# Altium schematic symbol library CM4_GPIO.SchLib: 14 symbols
Pins are listed as number, name and electrical type; pins without a type are passive.

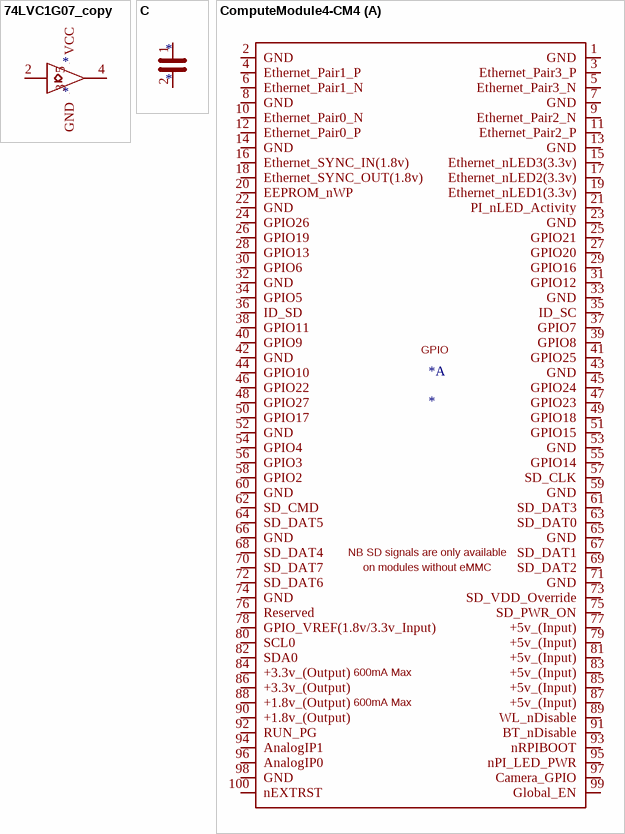
[diagram p0: symbols 74LVC1G07_copy to ComputeModule4-CM4]

## 74LVC1G07_copy
designator *
pins: 2, 3 GND, 4, 5 VCC

## C
designator *
pins: 1, 2

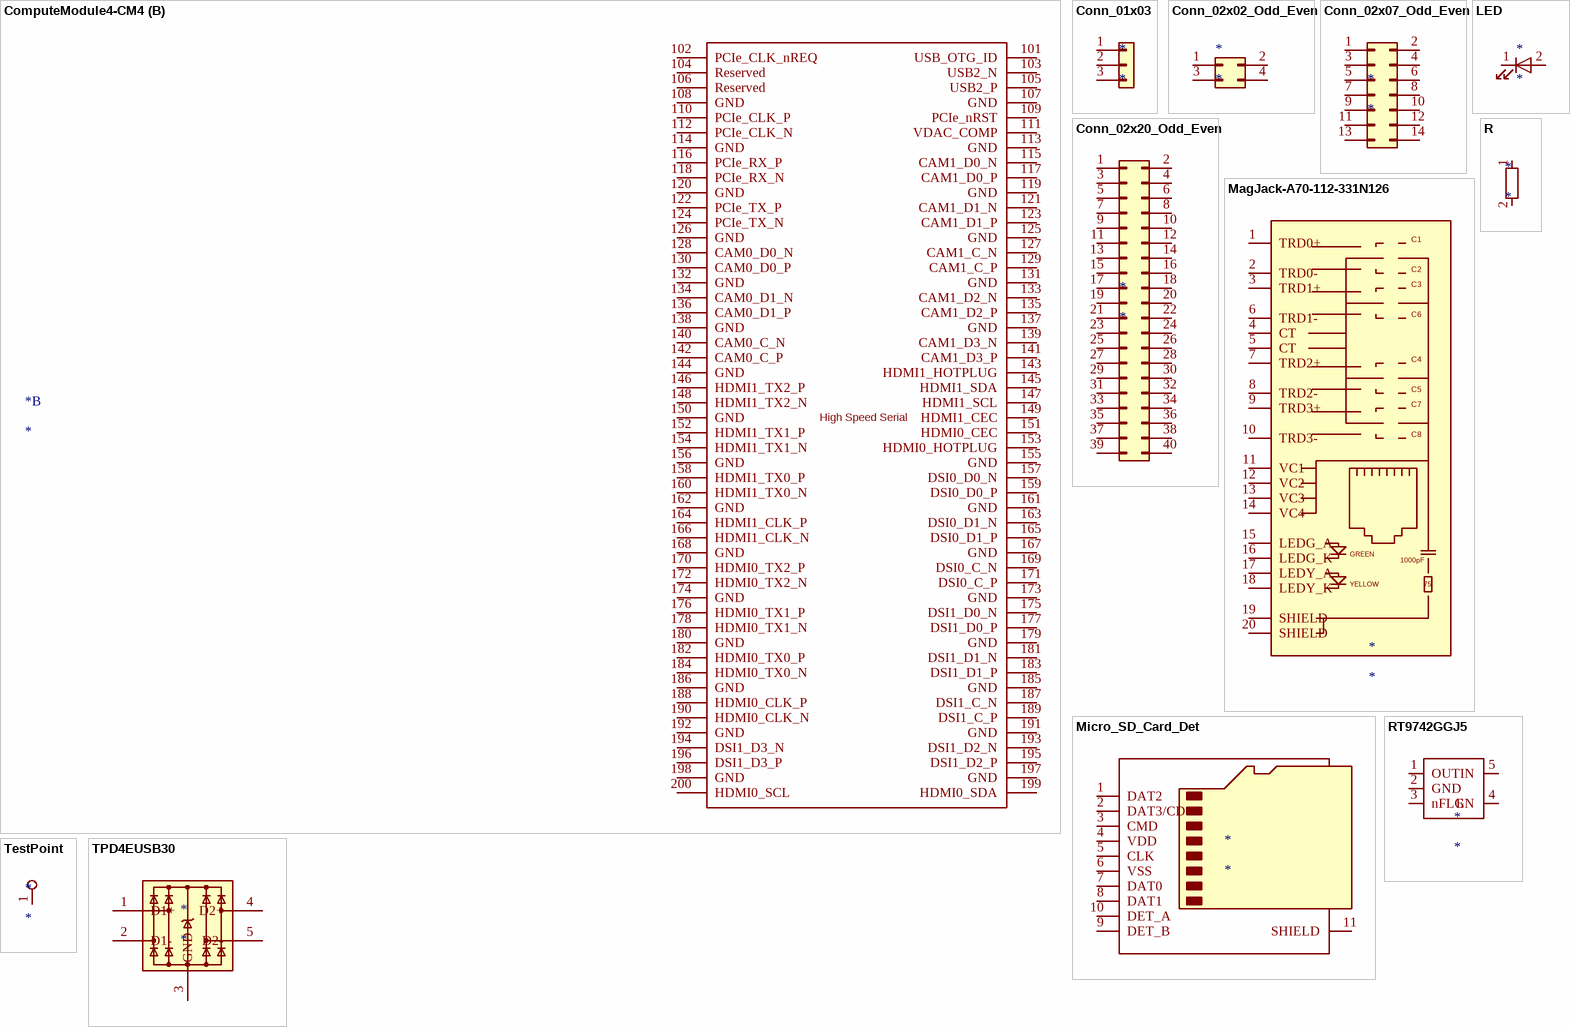
[diagram p1: symbols ComputeModule4-CM4 to TPD4EUSB30]

## ComputeModule4-CM4
designator *
part A pins: 1 GND, 2 GND, 3 Ethernet_Pair3_P, 4 Ethernet_Pair1_P, 5 Ethernet_Pair3_N, 6 Ethernet_Pair1_N, 7 GND, 8 GND, 9 Ethernet_Pair2_N, 10 Ethernet_Pair0_N, 11 Ethernet_Pair2_P, 12 Ethernet_Pair0_P, 13 GND, 14 GND, 15 Ethernet_nLED3(3.3v), 16 Ethernet_SYNC_IN(1.8v), 17 Ethernet_nLED2(3.3v), 18 Ethernet_SYNC_OUT(1.8v), 19 Ethernet_nLED1(3.3v), 20 EEPROM_nWP, 21 PI_nLED_Activity, 22 GND, 23 GND, 24 GPIO26, 25 GPIO21, 26 GPIO19, 27 GPIO20, 28 GPIO13, 29 GPIO16, 30 GPIO6, 31 GPIO12, 32 GND, 33 GND, 34 GPIO5, 35 ID_SC, 36 ID_SD, 37 GPIO7, 38 GPIO11, 39 GPIO8, 40 GPIO9, 41 GPIO25, 42 GND, 43 GND, 44 GPIO10, 45 GPIO24, 46 GPIO22, 47 GPIO23, 48 GPIO27, 49 GPIO18, 50 GPIO17, 51 GPIO15, 52 GND, 53 GND, 54 GPIO4, 55 GPIO14, 56 GPIO3, 57 SD_CLK, 58 GPIO2, 59 GND, 60 GND, 61 SD_DAT3, 62 SD_CMD, 63 SD_DAT0, 64 SD_DAT5, 65 GND, 66 GND, 67 SD_DAT1, 68 SD_DAT4, 69 SD_DAT2, 70 SD_DAT7, 71 GND, 72 SD_DAT6, 73 SD_VDD_Override, 74 GND, 75 SD_PWR_ON, 76 Reserved, 77 +5v_(Input), 78 GPIO_VREF(1.8v/3.3v_Input), 79 +5v_(Input), 80 SCL0, 81 +5v_(Input), 82 SDA0, 83 +5v_(Input), 84 +3.3v_(Output), 85 +5v_(Input), 86 +3.3v_(Output), 87 +5v_(Input), 88 +1.8v_(Output), 89 WL_nDisable, 90 +1.8v_(Output), 91 BT_nDisable, 92 RUN_PG, 93 nRPIBOOT, 94 AnalogIP1, 95 nPI_LED_PWR, 96 AnalogIP0, 97 Camera_GPIO, 98 GND, 99 Global_EN, 100 nEXTRST
part B pins: 101 USB_OTG_ID, 102 PCIe_CLK_nREQ, 103 USB2_N, 104 Reserved, 105 USB2_P, 106 Reserved, 107 GND, 108 GND, 109 PCIe_nRST, 110 PCIe_CLK_P, 111 VDAC_COMP, 112 PCIe_CLK_N, 113 GND, 114 GND, 115 CAM1_D0_N, 116 PCIe_RX_P, 117 CAM1_D0_P, 118 PCIe_RX_N, 119 GND, 120 GND, 121 CAM1_D1_N, 122 PCIe_TX_P, 123 CAM1_D1_P, 124 PCIe_TX_N, 125 GND, 126 GND, 127 CAM1_C_N, 128 CAM0_D0_N, 129 CAM1_C_P, 130 CAM0_D0_P, 131 GND, 132 GND, 133 CAM1_D2_N, 134 CAM0_D1_N, 135 CAM1_D2_P, 136 CAM0_D1_P, 137 GND, 138 GND, 139 CAM1_D3_N, 140 CAM0_C_N, 141 CAM1_D3_P, 142 CAM0_C_P, 143 HDMI1_HOTPLUG, 144 GND, 145 HDMI1_SDA, 146 HDMI1_TX2_P, 147 HDMI1_SCL, 148 HDMI1_TX2_N, 149 HDMI1_CEC, 150 GND, 151 HDMI0_CEC, 152 HDMI1_TX1_P, 153 HDMI0_HOTPLUG, 154 HDMI1_TX1_N, 155 GND, 156 GND, 157 DSI0_D0_N, 158 HDMI1_TX0_P, 159 DSI0_D0_P, 160 HDMI1_TX0_N, 161 GND, 162 GND, 163 DSI0_D1_N, 164 HDMI1_CLK_P, 165 DSI0_D1_P, 166 HDMI1_CLK_N, 167 GND, 168 GND, 169 DSI0_C_N, 170 HDMI0_TX2_P, 171 DSI0_C_P, 172 HDMI0_TX2_N, 173 GND, 174 GND, 175 DSI1_D0_N, 176 HDMI0_TX1_P, 177 DSI1_D0_P, 178 HDMI0_TX1_N, 179 GND, 180 GND, 181 DSI1_D1_N, 182 HDMI0_TX0_P, 183 DSI1_D1_P, 184 HDMI0_TX0_N, 185 GND, 186 GND, 187 DSI1_C_N, 188 HDMI0_CLK_P, 189 DSI1_C_P, 190 HDMI0_CLK_N, 191 GND, 192 GND, 193 DSI1_D2_N, 194 DSI1_D3_N, 195 DSI1_D2_P, 196 DSI1_D3_P, 197 GND, 198 GND, 199 HDMI0_SDA, 200 HDMI0_SCL
part A text: GPIO; NB SD signals are only available; on modules without eMMC; 600mA Max
part B text: High Speed Serial

## Conn_01x03
designator *
pins: 1 Pin_1, 2 Pin_2, 3 Pin_3

## Conn_02x02_Odd_Even
designator *
pins: 1 Pin_1, 2 Pin_2, 3 Pin_3, 4 Pin_4

## Conn_02x07_Odd_Even
designator *
pins: 1 Pin_1, 2 Pin_2, 3 Pin_3, 4 Pin_4, 5 Pin_5, 6 Pin_6, 7 Pin_7, 8 Pin_8, 9 Pin_9, 10 Pin_10, 11 Pin_11, 12 Pin_12, 13 Pin_13, 14 Pin_14

## Conn_02x20_Odd_Even
designator *
pins: 1 Pin_1, 2 Pin_2, 3 Pin_3, 4 Pin_4, 5 Pin_5, 6 Pin_6, 7 Pin_7, 8 Pin_8, 9 Pin_9, 10 Pin_10, 11 Pin_11, 12 Pin_12, 13 Pin_13, 14 Pin_14, 15 Pin_15, 16 Pin_16, 17 Pin_17, 18 Pin_18, 19 Pin_19, 20 Pin_20, 21 Pin_21, 22 Pin_22, 23 Pin_23, 24 Pin_24, 25 Pin_25, 26 Pin_26, 27 Pin_27, 28 Pin_28, 29 Pin_29, 30 Pin_30, 31 Pin_31, 32 Pin_32, 33 Pin_33, 34 Pin_34, 35 Pin_35, 36 Pin_36, 37 Pin_37, 38 Pin_38, 39 Pin_39, 40 Pin_40

## LED
designator *
pins: 1 K, 2 A

## MagJack-A70-112-331N126
designator *
pins: 1 TRD0+, 2 TRD0-, 3 TRD1+, 4 CT, 5 CT, 6 TRD1-, 7 TRD2+, 8 TRD2-, 9 TRD3+, 10 TRD3-, 11 VC1, 12 VC2, 13 VC3, 14 VC4, 15 LEDG_A, 16 LEDG_K, 17 LEDY_A, 18 LEDY_K, 19 SHIELD, 20 SHIELD
text: C1; C2; C3; C6; C4; C5; C7; C8; GREEN; 1000pF; YELLOW; 75

## Micro_SD_Card_Det
designator *
pins: 1 DAT2, 2 DAT3/CD, 3 CMD, 4 VDD, 5 CLK, 6 VSS, 7 DAT0, 8 DAT1, 9 DET_B, 10 DET_A, 11 SHIELD

## R
designator *
pins: 1, 2

## RT9742GGJ5
designator *
pins: 1 OUT, 2 GND, 3 nFLG, 4 EN, 5 IN

## TestPoint
designator *
pins: 1

## TPD4EUSB30
designator *
pins: 1 D1+, 2 D1-, 3 GND, 4 D2+, 5 D2-, 6 hidden, 7 hidden, 8 GND hidden, 9 hidden, 10 hidden